# Altium footprint library Footprint.PcbLib: 97 footprints (part 6 of 7)
Each footprint in its own frame and in the unit in brackets; x right, y up, seen from the top. Pads: shape width x height; smd on the part's side, far side on the other; paste and mask are expansions set on the pad; w line width, h text height; cw(c..) or ccw(c..) is an arc to the next point about the centre after c.
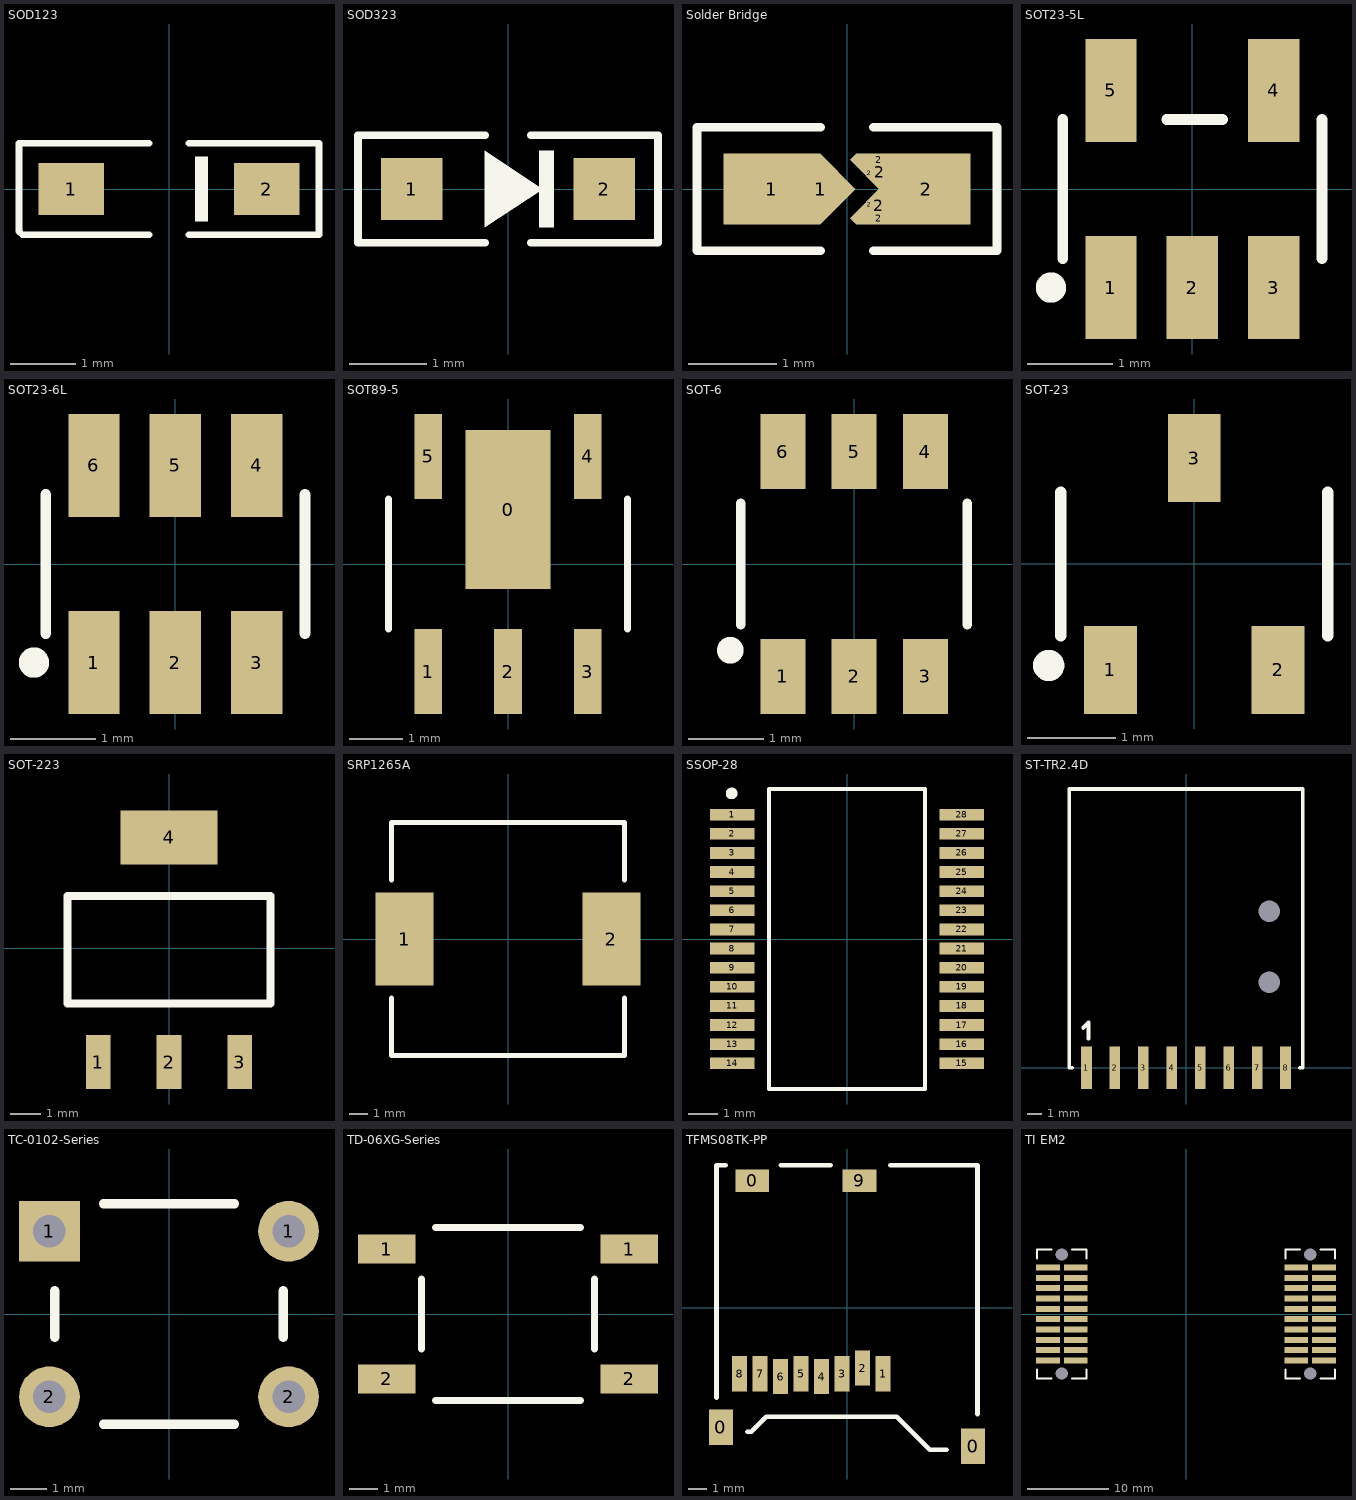
[diagram p5: the footprints below, top view; thin cyan lines are the x and y axes]

## SOD123 [mm]
pads (2):
  rect 1x0.8 smd: 1(-1.5,0) 2(1.5,0)
Top Overlay:
  rectangle: 0.4,-0.5 0.6,0.5
  lines w0.1: -0.3,-0.7 -2.25,-0.7 -2.3,-0.65 -2.3,0.7 -0.3,0.7 ; 0.3,-0.7 2.3,-0.7 2.3,0.7 0.3,0.7

## SOD323 [mm]
pads (2):
  rect 0.8x0.8 smd: 1(-1.25,0) 2(1.25,0)
Top Overlay:
  rectangle: 0.4,-0.5 0.6,0.5
  region: 0.45,0 -0.3,0.5 -0.3,-0.5
  lines w0.1: -0.3,-0.7 -1.95,-0.7 -1.95,0.7 -0.3,0.7 ; 0.3,-0.7 1.95,-0.7 1.95,0.7 0.3,0.7
3D body: height 1.17, standoff 0.1, extent -0.9,-0.725 0.9,0.725
3D body: height 0.25, standoff 0, extent 1.07,-0.22 1.35,0.22
3D body: height 0.9, standoff 0.65, extent 0.9,-0.22 1.07,0.22
3D body: height 0.9, standoff 0.25, extent 1.07,-0.22 1.24,0.22
3D body: height 0.9, standoff 0.25, extent -1.24,-0.22 -1.07,0.22
3D body: height 0.9, standoff 0.65, extent -1.07,-0.22 -0.9,0.22
3D body: height 0.25, standoff 0, extent -1.35,-0.22 -1.07,0.22
3D body: height 1.18, standoff 1.17, extent 0.6,-0.725 0.9,0.725

## Solder Bridge [mm]
pads (9):
  rect 1.1x0.8 smd mask+0: 1(-0.85,0)
  rect 0.566x0.566 smd rot 45 mask+0: 1(-0.3,0)
  rect 0.1x0.522 smd rot 135 mask+0: 2(0.25,-0.18)
  rect 0.1x0.522 smd rot 45 mask+0: 2(0.25,0.18)
  rect 0.23x0.3 smd rot 135 mask+0: 2(0.36,-0.19)
  rect 0.522x0.14 smd mask+0: 2(0.362,-0.33) 2(0.362,0.33)
  rect 0.23x0.3 smd rot 45 mask+0: 2(0.37,0.19)
  rect 1x0.8 smd mask+0: 2(0.9,0)
Top Overlay:
  lines w0.1: -0.3,-0.7 -1.7,-0.7 -1.7,0.7 -0.3,0.7 ; 0.3,-0.7 1.7,-0.7 1.7,0.7 0.3,0.7
Top Solder:
  rectangle: -1.5,-0.5 1.5,0.5

## SOT23-5L [mm]
pads (5):
  rect 0.6x1.2 smd: 1(-0.95,-1.15) 2(0,-1.15) 3(0.95,-1.15) 4(0.95,1.15) 5(-0.95,1.15)
Top Overlay:
  circle w0.254: c-1.65,-1.15 r0.05
  lines w0.127: -1.512,-0.813 -1.512,0.813 ; -0.3,0.813 0.35,0.813 ; 1.512,-0.813 1.512,0.813

## SOT23-6L [mm]
pads (6):
  rect 0.6x1.2 smd: 1(-0.95,-1.15) 2(0,-1.15) 3(0.95,-1.15) 4(0.95,1.15) 5(0,1.15) 6(-0.95,1.15)
Top Overlay:
  circle w0.254: c-1.65,-1.15 r0.05
  lines w0.127: -1.512,-0.813 -1.512,0.813 ; 1.512,-0.813 1.512,0.813

## SOT89-5 [mm]
pads (6):
  rect 1.6x3 smd: 0(0,1.025)
  rect 0.52x1.6 smd: 1(-1.5,-2.025) 2(0,-2.025) 3(1.5,-2.025) 4(1.5,2.025) 5(-1.5,2.025)
Top Overlay:
  lines w0.127: -2.25,-1.225 -2.25,1.225 ; 2.25,-1.225 2.25,1.225

## SOT-6 [mm]
pads (6):
  rect 0.6x1 smd: 1(-0.95,-1.5) 2(0,-1.5) 3(0.95,-1.5) 4(0.95,1.5) 5(0,1.5) 6(-0.95,1.5)
Top Overlay:
  circle w0.254: c-1.65,-1.15 r0.05
  lines w0.127: -1.512,-0.813 -1.512,0.813 ; 1.512,-0.813 1.512,0.813

## SOT-23 [mm]
pads (3):
  rect 0.6x1 smd: 1(-0.95,-1.2) 2(0.95,-1.2) 3(0,1.2)
Top Overlay:
  circle w0.254: c-1.65,-1.15 r0.05
  lines w0.127: -1.512,-0.813 -1.512,0.813 ; 1.512,-0.813 1.512,0.813

## SOT-223 [mm]
pads (4):
  rect 0.8x1.75 smd: 1(-2.3,-3.7) 2(0,-3.7) 3(2.3,-3.7)
  rect 3.15x1.75 smd: 4(0,3.6)
Top Overlay:
  lines w0.254: -3.3,-1.8 -3.3,1.7 3.3,1.7 3.3,-1.8 -3.3,-1.8
3D body: height 1.8, standoff 0.1, extent -3.25,-1.75 3.25,1.755
3D body: height 0.9, standoff 0.64, extent -0.35,-2.745 0.35,-1.725
3D body: height 0.26, standoff 0, extent -0.35,-3.5 0.35,-3
3D body: height 0.9, standoff 0, extent -0.35,-3 0.35,-2.745
3D body: height 0.9, standoff 0, extent -2.648,-2.975 -1.948,-2.72
3D body: height 0.26, standoff 0, extent -2.648,-3.475 -1.948,-2.975
3D body: height 0.9, standoff 0.64, extent -2.648,-2.72 -1.948,-1.7
3D body: height 0.9, standoff 0, extent -1.5,2.745 1.5,3
3D body: height 0.26, standoff 0, extent -1.5,3 1.5,3.5
3D body: height 0.9, standoff 0.64, extent -1.5,1.725 1.5,2.745
3D body: height 0.9, standoff 0.64, extent 1.95,-2.745 2.65,-1.725
3D body: height 0.26, standoff 0, extent 1.95,-3.5 2.65,-3
3D body: height 0.9, standoff 0, extent 1.95,-3 2.65,-2.745

## SRP1265A [mm]
pads (2):
  rect 3.1x5 smd: 1(-5.55,0) 2(5.55,0)
Top Overlay:
  lines w0.254: -6.25,-3.15 -6.25,-6.25 6.25,-6.25 6.25,-3.15 ; -6.25,3.15 -6.25,6.25 6.25,6.25 6.25,3.15
3D body: height 6.2, standoff 0, extent -6.25,-6.25 6.25,6.25
3D body: height 0.5, standoff 0, extent -6.75,-2.35 -4.45,2.35
3D body: height 0.5, standoff 0, extent 4.45,-2.35 6.75,2.35
3D body: height 2.5, standoff 0.5, extent -6.75,-2.35 -6.25,2.35
3D body: height 3.5, standoff 2.5, extent -6.75,0.55 -6.25,2.35
3D body: height 3.5, standoff 2.5, extent -6.75,-2.35 -6.25,-0.55
3D body: height 3.5, standoff 2.5, extent 6.25,-2.35 6.75,-0.55
3D body: height 3.5, standoff 2.5, extent 6.25,0.55 6.75,2.35
3D body: height 2.5, standoff 0.5, extent 6.25,-2.35 6.75,2.35

## SSOP-28 [mm]
pads (28):
  rect 1.5x0.4 smd: 1(-3.9,4.225) 2(-3.9,3.575) 3(-3.9,2.925) 4(-3.9,2.275) 5(-3.9,1.625) 6(-3.9,0.975) 7(-3.9,0.325) 8(-3.9,-0.325) 9(-3.9,-0.975) 10(-3.9,-1.625) 11(-3.9,-2.275) 12(-3.9,-2.925) 13(-3.9,-3.575) 14(-3.9,-4.225) 15(3.9,-4.225) 16(3.9,-3.575) 17(3.9,-2.925) 18(3.9,-2.275) 19(3.9,-1.625) 20(3.9,-0.975) 21(3.9,-0.325) 22(3.9,0.325) 23(3.9,0.975) 24(3.9,1.625) 25(3.9,2.275) 26(3.9,2.925) 27(3.9,3.575) 28(3.9,4.225)
Top Overlay:
  circle w0.254: c-3.921,4.95 r0.071
  lines w0.127: -2.65,-5.1 -2.65,5.1 2.65,5.1 2.65,-5.1 -2.65,-5.1

## ST-TR2.4D [mm] "FSK 2.4GHz FSK/MSK/ASK/OOK TRANSCEIVER MODULE"
pads (10):
  round 0 hole 1.5: 0(5.85,6) 0(5.85,11)
  rect 0.75x3 smd: 1(-7,0) 2(-5,0) 3(-3,0) 4(-1,0) 5(1,0) 6(3,0) 7(5,0) 8(7,0)
Top Overlay:
  lines w0.254: -8.001,0 -8.2,0 -8.2,19.6 8.2,19.6 8.2,0 8.001,0 ; -7.239,2.794 -6.858,3.175 -6.858,2.032

## TC-0102-Series [mil]
pads (4):
  rect 65x65 hole 35: 1(-127.95,88.58)
  round 65 hole 35: 1(127.95,88.58) 2(-127.95,-88.58) 2(127.95,-88.58)
Top Overlay:
  lines w10: -122.05,-25 -122.05,25 ; -70,-118.11 70,-118.11 ; -70,118.11 70,118.11 ; 122.05,-25 122.05,25

## TD-06XG-Series [mm]
pads (4):
  rect 2x1 smd: 1(-4.2,2.25) 1(4.2,2.25) 2(-4.2,-2.25) 2(4.2,-2.25)
Top Overlay:
  lines w0.254: -3,-1.2 -3,1.2 ; -2.5,-3 2.5,-3 ; -2.5,3 2.5,3 ; 3,-1.2 3,1.2
3D body: height 3.5, standoff 3.4, extent -3,-3 3,3
3D body: height 3.4, standoff 0, extent -3,-3 3,3
3D body: height 4.3, standoff 3.5, extent -1.75,-1.75 1.736,1.743
3D body: height 4, standoff 3.5, extent 1.736,1.743 2.732,2.741
3D body: height 4, standoff 3.5, extent 1.736,-2.748 2.732,-1.75
3D body: height 4, standoff 3.5, extent -2.746,-2.748 -1.75,-1.75
3D body: height 4, standoff 3.5, extent -2.746,1.743 -1.75,2.741
3D body: height 0.2, standoff 0, extent 3.2,1.9 4,2.6
3D body: height 1, standoff 0, extent 3,1.9 3.2,2.6
3D body: height 1, standoff 0, extent -3.2,-2.6 -3,-1.9
3D body: height 0.2, standoff 0, extent -4,-2.6 -3.2,-1.9
3D body: height 1, standoff 0, extent -3.214,1.884 -3.014,2.584
3D body: height 0.2, standoff 0, extent -4.014,1.884 -3.214,2.584
3D body: height 1, standoff 0, extent 3,-2.591 3.2,-1.891
3D body: height 0.2, standoff 0, extent 3.2,-2.591 4,-1.891

## TFMS08TK-PP [mm]
pads (12):
  rect 1.3x1.9 smd: 0(-6.76,-6.41) 0(6.76,-7.43)
  rect 1.8x1.2 smd: 0(-5.08,6.81) 9(0.67,6.81)
  rect 0.8x1.88 smd: 1(1.94,-3.54) 2(0.84,-3.24) 3(-0.26,-3.54) 4(-1.36,-3.69) 5(-2.46,-3.54) 6(-3.56,-3.69) 7(-4.66,-3.54) 8(-5.76,-3.54)
Top Overlay:
  lines w0.254: -7,-4.826 -7,7.65 -6.507,7.65 ; -5.334,-6.65 -5.126,-6.65 -4.318,-5.842 2.667,-5.842 4.445,-7.62 5.334,-7.62 ; -3.556,7.65 -0.889,7.65 ; 2.316,7.65 7,7.65 7,-5.715

## TI EM2 [mil]
pads (44):
  round 0 hole 60: 0(-600,-287.5) 0(-600,287.5) 0(600,-287.5) 0(600,287.5)
  rect 115x29 smd: 1(-667.5,225) 2(-532.5,225) 3(-667.5,175) 4(-532.5,175) 5(-667.5,125) 6(-532.5,125) 7(-667.5,75) 8(-532.5,75) 9(-667.5,25) 10(-532.5,25) 11(-667.5,-25) 12(-532.5,-25) 13(-667.5,-75) 14(-532.5,-75) 15(-667.5,-125) 16(-532.5,-125) 17(-667.5,-175) 18(-532.5,-175) 19(-667.5,-225) 20(-532.5,-225) 21(532.5,225) 22(667.5,225) 23(532.5,175) 24(667.5,175) 25(532.5,125) 26(667.5,125) 27(532.5,75) 28(667.5,75) 29(532.5,25) 30(667.5,25) 31(532.5,-25) 32(667.5,-25) 33(532.5,-75) 34(667.5,-75) 35(532.5,-125) 36(667.5,-125) 37(532.5,-175) 38(667.5,-175) 39(532.5,-225) 40(667.5,-225)
Top Overlay:
  lines w10: -720,-267.5 -720,-312.5 -650,-312.5 ; -720,267.5 -720,312.5 -650,312.5 ; -550,-312.5 -480,-312.5 -480,-267.5 ; -550,312.5 -480,312.5 -480,267.5 ; 480,-267.5 480,-312.5 550,-312.5 ; 480,267.5 480,312.5 550,312.5 ; 650,-312.5 720,-312.5 720,-267.5 ; 650,312.5 720,312.5 720,267.5